# EAGLE library part DM9000 (library dm9000)
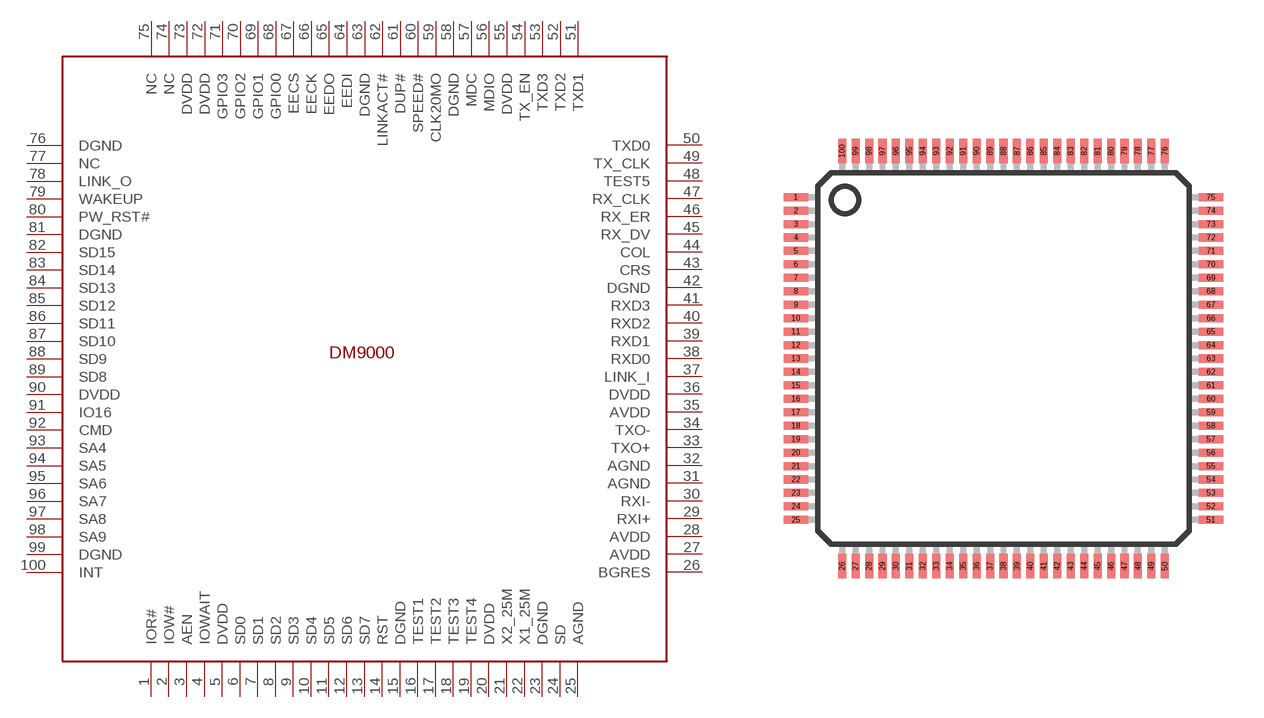
[diagram p0: symbol with the pads of LQFP100; footprint LQFP100]

Designator prefix -

## DM9000  [LQFP100]
1  IOR#
2  IOW#
3  AEN
4  IOWAIT
5  DVDD
6  SD0
7  SD1
8  SD2
9  SD3
10  SD4
11  SD5
12  SD6
13  SD7
14  RST
15  DGND
16  TEST1
17  TEST2
18  TEST3
19  TEST4
20  DVDD  pwr
21  X2_25M
22  X1_25M
23  DGND
24  SD
25  AGND
26  BGRES
27  AVDD
28  AVDD
29  RXI+
30  RXI-
31  AGND
32  AGND
33  TXO+
34  TXO-
35  AVDD
36  DVDD
37  LINK_I
38  RXD0
39  RXD1
40  RXD2
41  RXD3
42  DGND
43  CRS
44  COL
45  RX_DV
46  RX_ER
47  RX_CLK
48  TEST5
49  TX_CLK
50  TXD0
51  TXD1
52  TXD2
53  TXD3
54  TX_EN
55  DVDD
56  MDIO
57  MDC
58  DGND
59  CLK20MO
60  SPEED#
61  DUP#
62  LINKACT#
63  DGND
64  EEDI
65  EEDO
66  EECK
67  EECS
68  GPIO0
69  GPIO1
70  GPIO2
71  GPIO3
72  DVDD
73  DVDD
74  NC
75  NC
76  DGND
77  NC
78  LINK_O
79  WAKEUP
80  PW_RST#
81  DGND
82  SD15
83  SD14
84  SD13
85  SD12
86  SD11
87  SD10
88  SD9
89  SD8
90  DVDD
91  IO16
92  CMD
93  SA4
94  SA5
95  SA6
96  SA7
97  SA8
98  SA9
99  DGND
100  INT

## Footprint LQFP100 (pad centres in mm)
Low Profile Quad Flat Pack
smd 0.9 x 0.3: 1 -7.72,6; 2 -7.72,5.5; 3 -7.72,5; 4 -7.72,4.5; 5 -7.72,4; 6 -7.72,3.5; 7 -7.72,3; 8 -7.72,2.5; 9 -7.72,2; 10 -7.72,1.5; 11 -7.72,1; 12 -7.72,0.5; 13 -7.72,0; 14 -7.72,-0.5; 15 -7.72,-1; 16 -7.72,-1.5; 17 -7.72,-2; 18 -7.72,-2.5; 19 -7.72,-3; 20 -7.72,-3.5; 21 -7.72,-4; 22 -7.72,-4.5; 23 -7.72,-5; 24 -7.72,-5.5; 25 -7.72,-6; 51 7.72,-6; 52 7.72,-5.5; 53 7.72,-5; 54 7.72,-4.5; 55 7.72,-4; 56 7.72,-3.5; 57 7.72,-3; 58 7.72,-2.5; 59 7.72,-2; 60 7.72,-1.5; 61 7.72,-1; 62 7.72,-0.5; 63 7.72,0; 64 7.72,0.5; 65 7.72,1; 66 7.72,1.5; 67 7.72,2; 68 7.72,2.5; 69 7.72,3; 70 7.72,3.5; 71 7.72,4; 72 7.72,4.5; 73 7.72,5; 74 7.72,5.5; 75 7.72,6
smd 0.3 x 0.9: 26 -6,-7.72; 27 -5.5,-7.72; 28 -5,-7.72; 29 -4.5,-7.72; 30 -4,-7.72; 31 -3.5,-7.72; 32 -3,-7.72; 33 -2.5,-7.72; 34 -2,-7.72; 35 -1.5,-7.72; 36 -1,-7.72; 37 -0.5,-7.72; 38 0,-7.72; 39 0.5,-7.72; 40 1,-7.72; 41 1.5,-7.72; 42 2,-7.72; 43 2.5,-7.72; 44 3,-7.72; 45 3.5,-7.72; 46 4,-7.72; 47 4.5,-7.72; 48 5,-7.72; 49 5.5,-7.72; 50 6,-7.72; 76 6,7.72; 77 5.5,7.72; 78 5,7.72; 79 4.5,7.72; 80 4,7.72; 81 3.5,7.72; 82 3,7.72; 83 2.5,7.72; 84 2,7.72; 85 1.5,7.72; 86 1,7.72; 87 0.5,7.72; 88 0,7.72; 89 -0.5,7.72; 90 -1,7.72; 91 -1.5,7.72; 92 -2,7.72; 93 -2.5,7.72; 94 -3,7.72; 95 -3.5,7.72; 96 -4,7.72; 97 -4.5,7.72; 98 -5,7.72; 99 -5.5,7.72; 100 -6,7.72